# EAGLE library part KSZ8091R (library borkedlabs-transceivers)
10BASE-T/100BASE-T PHY with RMII and EEE support
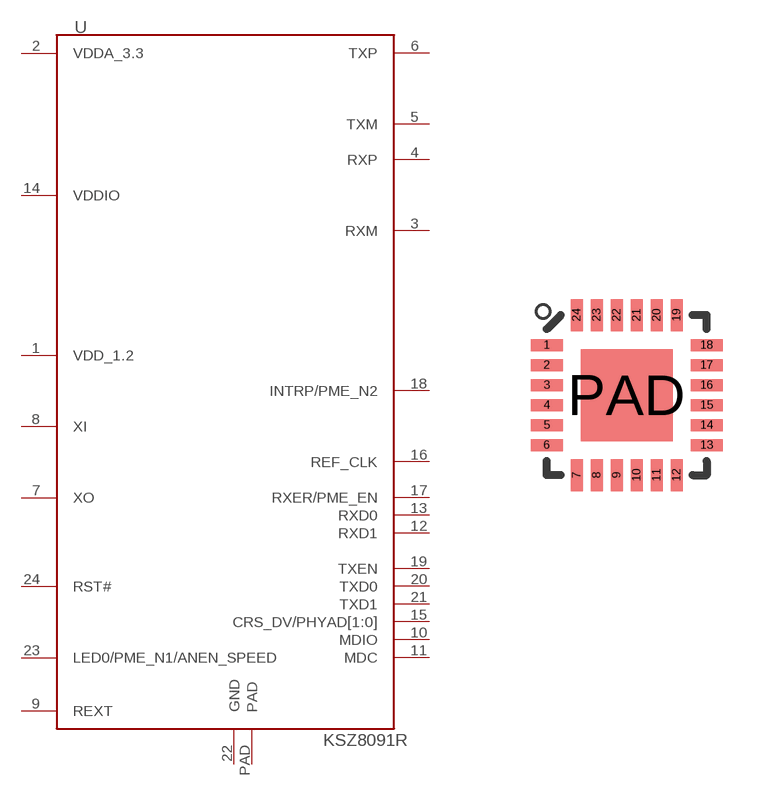
[diagram p6: symbol with the pads of QFN24-4X4; footprint QFN24-4X4]

Designator prefix U

## KSZ8091R (MPN: KSZ8091RN; PACKAGE: QFN24-4x4)  [QFN24-4X4]
1  VDD_1.2
2  VDDA_3.3
3  RXM
4  RXP
5  TXM
6  TXP
7  XO
8  XI
9  REXT
10  MDIO
11  MDC
12  RXD1
13  RXD0
14  VDDIO
15  CRS_DV/PHYAD[1:0]
16  REF_CLK
17  RXER/PME_EN
18  INTRP/PME_N2
19  TXEN
20  TXD0
21  TXD1
22  GND
23  LED0/PME_N1/ANEN_SPEED
24  RST#
PAD  PAD

## Footprint QFN24-4X4 (pad centres in mm)
smd 0.8 x 0.3: 1 -2,1.25; 2 -2,0.75; 3 -2,0.25; 4 -2,-0.25; 5 -2,-0.75; 6 -2,-1.25; 13 2,-1.25; 14 2,-0.75; 15 2,-0.25; 16 2,0.25; 17 2,0.75; 18 2,1.25
smd 0.3 x 0.8: 7 -1.25,-2; 8 -0.75,-2; 9 -0.25,-2; 10 0.25,-2; 11 0.75,-2; 12 1.25,-2; 19 1.25,2; 20 0.75,2; 21 0.25,2; 22 -0.25,2; 23 -0.75,2; 24 -1.25,2
smd 2.3 x 2.3: PAD 0,0